# Altium schematic symbol library WR-PHD_Pin Header_2.54mm.SchLib: 136 symbols (part 1 of 3)
Pins are listed as number, name and electrical type; pins without a type are passive.

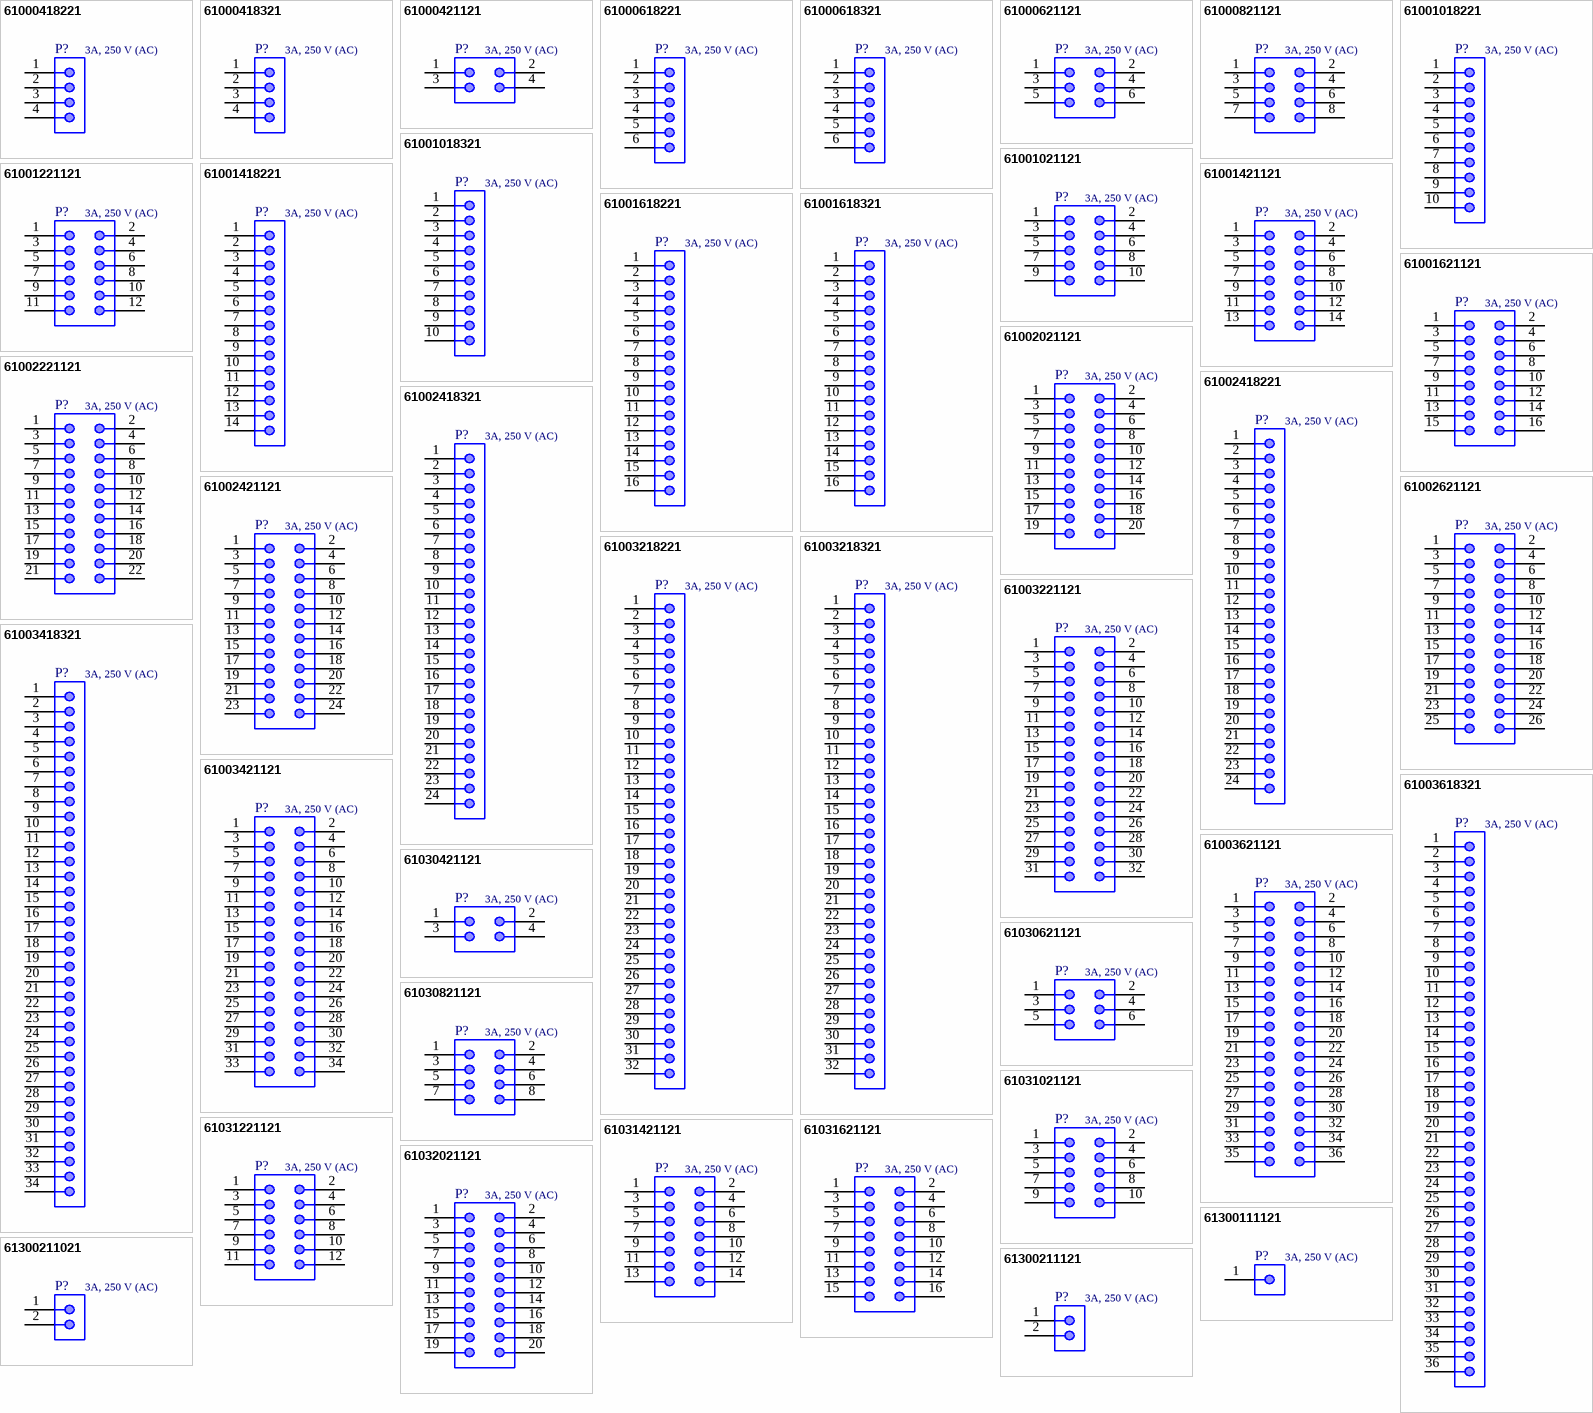
[diagram p0: symbols 61000418221 to 61300211121]

## 61000418221
designator P?, comment 3A, 250 V (AC)
WR-PHD Pin Header, SMT, pitch 2.54mm, Single Row, Vertical, 4p; Manufacturer Part Number: 61000418221; Manufacturer: Wurth Elektronik; Pin Number: 4; Working Voltage: 250VAC; Withstanding Voltage: 500VAC; Contact Resistance: 20mOhm; ComponentLink1Description: Datasheet; ComponentLink1URL: https://www.we-online.com/catalog/datasheet/61000418221.pdf; Published Date: May 2020; Pitch: 2.54mm; Packaging: Tube; Gender: Pin Header; Rated Current: 3A; Row Number: Single; Orientation: Vertical; Supplier 1 URL: https://www.mouser.vn/ProductDetail/Wurth-Elektronik/61000418221?qs=PhR8RmCirEYdONxwBKe2QA%3D%3D; Supplier 2 URL: N/A; Supplier 3 URL: N/A; LCSC Part #: N/A; Mount: SMD/SMT; Operating Temperature Max: + 85 C; Operating Temperature Min: - 25 C; Supplier 1: Mouser; Supplier 1 Part Number: 710-61000418221; Supplier 2: Digi-Key; Supplier 2 Part Number: N/A; Supplier 3: thegioiic; Supplier 3 Part Number: N/A; Value: 3A, 250 V (AC)
footprint 61000418221
pins: 1, 2, 3, 4

## 61000418321
designator P?, comment 3A, 250 V (AC)
WR-PHD Pin Header, SMT, pitch 2.54mm, Single Row, Vertical, 4p; Manufacturer Part Number: 61000418321; Manufacturer: Wurth Elektronik; Pin Number: 4; Working Voltage: 250VAC; Withstanding Voltage: 500VAC; Contact Resistance: 20mOhm; ComponentLink1Description: Datasheet; ComponentLink1URL: https://www.we-online.com/catalog/datasheet/61000418321.pdf; Published Date: May 2020; Pitch: 2.54mm; Packaging: Tube; Gender: Pin Header; Rated Current: 3A; Row Number: Single; Orientation: Vertical; Supplier 1 URL: N/A; Supplier 2 URL: N/A; Supplier 3 URL: N/A; LCSC Part #: N/A; Mount: SMD/SMT; Operating Temperature Max: + 85 C; Operating Temperature Min: - 25 C; Supplier 1: Mouser; Supplier 1 Part Number: N/A; Supplier 2: Digi-Key; Supplier 2 Part Number: N/A; Supplier 3: thegioiic; Supplier 3 Part Number: N/A; Value: 3A, 250 V (AC)
footprint 61000418321
pins: 1, 2, 3, 4

## 61000421121
designator P?, comment 3A, 250 V (AC)
WR-PHD Pin Header, SMT, pitch 2.54mm, Dual Row, Vertical, 4p; Manufacturer Part Number: 61000421121; Manufacturer: Wurth Elektronik; Pin Number: 4; Working Voltage: 250VAC; Withstanding Voltage: 500VAC; Contact Resistance: 20mOhm; ComponentLink1Description: Datasheet; ComponentLink1URL: https://www.we-online.com/catalog/datasheet/61000421121.pdf; Published Date: May 2020; Pitch: 2.54mm; Packaging: Tube; Gender: Pin Header; Rated Current: 3A; Row Number: Dual; Orientation: Vertical; Supplier 1 URL: https://www.mouser.vn/ProductDetail/Wurth-Elektronik/61000421121?qs=PhR8RmCirEbv1dkOs1yFBA%3D%3D; Supplier 2 URL: N/A; Supplier 3 URL: N/A; LCSC Part #: N/A; Mount: SMD/SMT; Operating Temperature Max: + 85 C; Operating Temperature Min: - 25 C; Supplier 1: Mouser; Supplier 1 Part Number: 710-61000421121; Supplier 2: Digi-Key; Supplier 2 Part Number: N/A; Supplier 3: thegioiic; Supplier 3 Part Number: N/A; Value: 3A, 250 V (AC)
footprint 61000421121
pins: 1, 2, 3, 4

## 61000618221
designator P?, comment 3A, 250 V (AC)
WR-PHD Pin Header, SMT, pitch 2.54mm, Single Row, Vertical, 6p; Manufacturer Part Number: 61000618221; Manufacturer: Wurth Elektronik; Pin Number: 6; Working Voltage: 250VAC; Withstanding Voltage: 500VAC; Contact Resistance: 20mOhm; ComponentLink1Description: Datasheet; ComponentLink1URL: https://www.we-online.com/catalog/datasheet/61000618221.pdf; Published Date: May 2020; Pitch: 2.54mm; Packaging: Tube; Gender: Pin Header; Rated Current: 3A; Row Number: Single; Orientation: Vertical; Supplier 1 URL: https://www.mouser.vn/ProductDetail/Wurth-Elektronik/61000618221?qs=PhR8RmCirEapv%2FAh7BjzQw%3D%3D; Supplier 2 URL: N/A; Supplier 3 URL: N/A; LCSC Part #: N/A; Mount: SMD/SMT; Operating Temperature Max: + 85 C; Operating Temperature Min: - 25 C; Supplier 1: Mouser; Supplier 1 Part Number: 710-61000618221; Supplier 2: Digi-Key; Supplier 2 Part Number: N/A; Supplier 3: thegioiic; Supplier 3 Part Number: N/A; Value: 3A, 250 V (AC)
footprint 61000618221
pins: 1, 2, 3, 4, 5, 6

## 61000618321
designator P?, comment 3A, 250 V (AC)
WR-PHD Pin Header, SMT, pitch 2.54mm, Single Row, Vertical, 6p; Manufacturer Part Number: 61000618321; Manufacturer: Wurth Elektronik; Pin Number: 6; Working Voltage: 250VAC; Withstanding Voltage: 500VAC; Contact Resistance: 20mOhm; ComponentLink1Description: Datasheet; ComponentLink1URL: https://www.we-online.com/catalog/datasheet/61000618321.pdf; Published Date: May 2020; Pitch: 2.54mm; Packaging: Tube; Gender: Pin Header; Rated Current: 3A; Row Number: Single; Orientation: Vertical; Supplier 1 URL: N/A; Supplier 2 URL: N/A; Supplier 3 URL: N/A; LCSC Part #: N/A; Mount: SMD/SMT; Operating Temperature Max: + 85 C; Operating Temperature Min: - 25 C; Supplier 1: Mouser; Supplier 1 Part Number: N/A; Supplier 2: Digi-Key; Supplier 2 Part Number: N/A; Supplier 3: thegioiic; Supplier 3 Part Number: N/A; Value: 3A, 250 V (AC)
footprint 61000618321
pins: 1, 2, 3, 4, 5, 6

## 61000621121
designator P?, comment 3A, 250 V (AC)
WR-PHD Pin Header, SMT, pitch 2.54mm, Dual Row, Vertical, 6p; Manufacturer Part Number: 61000621121; Manufacturer: Wurth Elektronik; Pin Number: 6; Working Voltage: 250VAC; Withstanding Voltage: 500VAC; Contact Resistance: 20mOhm; ComponentLink1Description: Datasheet; ComponentLink1URL: https://www.we-online.com/catalog/datasheet/61000621121.pdf; Published Date: May 2020; Pitch: 2.54mm; Packaging: Tube; Gender: Pin Header; Rated Current: 3A; Row Number: Dual; Orientation: Vertical; Supplier 1 URL: https://www.mouser.vn/ProductDetail/Wurth-Elektronik/61000621121?qs=PhR8RmCirEYoFU9UUO%252Bbug%3D%3D; Supplier 2 URL: N/A; Supplier 3 URL: N/A; LCSC Part #: N/A; Mount: SMD/SMT; Operating Temperature Max: + 85 C; Operating Temperature Min: - 25 C; Supplier 1: Mouser; Supplier 1 Part Number: 710-61000621121; Supplier 2: Digi-Key; Supplier 2 Part Number: N/A; Supplier 3: thegioiic; Supplier 3 Part Number: N/A; Value: 3A, 250 V (AC)
footprint 61000621121
pins: 1, 2, 3, 4, 5, 6

## 61000821121
designator P?, comment 3A, 250 V (AC)
WR-PHD Pin Header, SMT, pitch 2.54mm, Dual Row, Vertical, 8p; Manufacturer Part Number: 61000821121; Manufacturer: Wurth Elektronik; Pin Number: 8; Working Voltage: 250VAC; Withstanding Voltage: 500VAC; Contact Resistance: 20mOhm; ComponentLink1Description: Datasheet; ComponentLink1URL: https://www.we-online.com/catalog/datasheet/61000821121.pdf; Published Date: May 2020; Pitch: 2.54mm; Packaging: Tube; Gender: Pin Header; Rated Current: 3A; Row Number: Dual; Orientation: Vertical; Supplier 1 URL: https://www.mouser.vn/ProductDetail/Wurth-Elektronik/61000821121?qs=PhR8RmCirEY9VZicy%252B5p2A%3D%3D; Supplier 2 URL: N/A; Supplier 3 URL: N/A; LCSC Part #: N/A; Mount: SMD/SMT; Operating Temperature Max: + 85 C; Operating Temperature Min: - 25 C; Supplier 1: Mouser; Supplier 1 Part Number: 710-61000821121; Supplier 2: Digi-Key; Supplier 2 Part Number: N/A; Supplier 3: thegioiic; Supplier 3 Part Number: N/A; Value: 3A, 250 V (AC)
footprint 61000821121
pins: 1, 2, 3, 4, 5, 6, 7, 8

## 61001018221
designator P?, comment 3A, 250 V (AC)
WR-PHD Pin Header, SMT, pitch 2.54mm, Single Row, Vertical, 10p; Manufacturer Part Number: 61001018221; Manufacturer: Wurth Elektronik; Pin Number: 10; Working Voltage: 250VAC; Withstanding Voltage: 500VAC; Contact Resistance: 20mOhm; ComponentLink1Description: Datasheet; ComponentLink1URL: https://www.we-online.com/catalog/datasheet/61001018221.pdf; Published Date: May 2020; Pitch: 2.54mm; Packaging: Tube; Gender: Pin Header; Rated Current: 3A; Row Number: Single; Orientation: Vertical; Supplier 1 URL: https://www.mouser.vn/ProductDetail/Wurth-Elektronik/61001018221?qs=PhR8RmCirEaQT5vgZN0Pew%3D%3D; Supplier 2 URL: N/A; Supplier 3 URL: N/A; LCSC Part #: N/A; Mount: SMD/SMT; Operating Temperature Max: + 85 C; Operating Temperature Min: - 25 C; Supplier 1: Mouser; Supplier 1 Part Number: 710-61001018221; Supplier 2: Digi-Key; Supplier 2 Part Number: N/A; Supplier 3: thegioiic; Supplier 3 Part Number: N/A; Value: 3A, 250 V (AC)
footprint 61001018221
pins: 1, 2, 3, 4, 5, 6, 7, 8, 9, 10

## 61001018321
designator P?, comment 3A, 250 V (AC)
WR-PHD Pin Header, SMT, pitch 2.54mm, Single Row, Vertical, 10p; Manufacturer Part Number: 61001018321; Manufacturer: Wurth Elektronik; Pin Number: 10; Working Voltage: 250VAC; Withstanding Voltage: 500VAC; Contact Resistance: 20mOhm; ComponentLink1Description: Datasheet; ComponentLink1URL: https://www.we-online.com/catalog/datasheet/61001018321.pdf; Published Date: May 2020; Pitch: 2.54mm; Packaging: Tube; Gender: Pin Header; Rated Current: 3A; Row Number: Single; Orientation: Vertical; Supplier 1 URL: N/A; Supplier 2 URL: N/A; Supplier 3 URL: N/A; LCSC Part #: N/A; Mount: SMD/SMT; Operating Temperature Max: + 85 C; Operating Temperature Min: - 25 C; Supplier 1: Mouser; Supplier 1 Part Number: N/A; Supplier 2: Digi-Key; Supplier 2 Part Number: N/A; Supplier 3: thegioiic; Supplier 3 Part Number: N/A; Value: 3A, 250 V (AC)
footprint 61001018321
pins: 1, 2, 3, 4, 5, 6, 7, 8, 9, 10

## 61001021121
designator P?, comment 3A, 250 V (AC)
WR-PHD Pin Header, SMT, pitch 2.54mm, Dual Row, Vertical, 10p; Manufacturer Part Number: 61001021121; Manufacturer: Wurth Elektronik; Pin Number: 10; Working Voltage: 250VAC; Withstanding Voltage: 500VAC; Contact Resistance: 20mOhm; ComponentLink1Description: Datasheet; ComponentLink1URL: https://www.we-online.com/catalog/datasheet/61001021121.pdf; Published Date: May 2020; Pitch: 2.54mm; Packaging: Tube; Gender: Pin Header; Rated Current: 3A; Row Number: Dual; Orientation: Vertical; Supplier 1 URL: https://www.mouser.vn/ProductDetail/Wurth-Elektronik/61001021121?qs=PhR8RmCirEb%252BTbdgW%2FxzDg%3D%3D; Supplier 2 URL: N/A; Supplier 3 URL: N/A; LCSC Part #: N/A; Mount: SMD/SMT; Operating Temperature Max: + 85 C; Operating Temperature Min: - 25 C; Supplier 1: Mouser; Supplier 1 Part Number: 710-61001021121; Supplier 2: Digi-Key; Supplier 2 Part Number: N/A; Supplier 3: thegioiic; Supplier 3 Part Number: N/A; Value: 3A, 250 V (AC)
footprint 61001021121
pins: 1, 2, 3, 4, 5, 6, 7, 8, 9, 10

## 61001221121
designator P?, comment 3A, 250 V (AC)
WR-PHD Pin Header, SMT, pitch 2.54mm, Dual Row, Vertical, 12p; Manufacturer Part Number: 61001221121; Manufacturer: Wurth Elektronik; Pin Number: 12; Working Voltage: 250VAC; Withstanding Voltage: 500VAC; Contact Resistance: 20mOhm; ComponentLink1Description: Datasheet; ComponentLink1URL: https://www.we-online.com/catalog/datasheet/61001221121.pdf; Published Date: May 2020; Pitch: 2.54mm; Packaging: Tube; Gender: Pin Header; Rated Current: 3A; Row Number: Dual; Orientation: Vertical; Supplier 1 URL: https://www.mouser.vn/ProductDetail/Wurth-Elektronik/61001221121?qs=PhR8RmCirEZCyuiqQamspg%3D%3D; Supplier 2 URL: N/A; Supplier 3 URL: N/A; LCSC Part #: N/A; Mount: SMD/SMT; Operating Temperature Max: + 85 C; Operating Temperature Min: - 25 C; Supplier 1: Mouser; Supplier 1 Part Number: 710-61001221121; Supplier 2: Digi-Key; Supplier 2 Part Number: N/A; Supplier 3: thegioiic; Supplier 3 Part Number: N/A; Value: 3A, 250 V (AC)
footprint 61001221121
pins: 1, 2, 3, 4, 5, 6, 7, 8, 9, 10, 11, 12

## 61001418221
designator P?, comment 3A, 250 V (AC)
WR-PHD Pin Header, SMT, pitch 2.54mm, Single Row, Vertical, 14p; Manufacturer Part Number: 61001418221; Manufacturer: Wurth Elektronik; Pin Number: 14; Working Voltage: 250VAC; Withstanding Voltage: 500VAC; Contact Resistance: 20mOhm; ComponentLink1Description: Datasheet; ComponentLink1URL: https://www.we-online.com/catalog/datasheet/61001418221.pdf; Published Date: May 2020; Pitch: 2.54mm; Packaging: Tube; Gender: Pin Header; Rated Current: 3A; Row Number: Single; Orientation: Vertical; Supplier 1 URL: https://www.mouser.vn/ProductDetail/Wurth-Elektronik/61001418221?qs=PhR8RmCirEZbaE9NVx%2FAsQ%3D%3D; Supplier 2 URL: N/A; Supplier 3 URL: N/A; LCSC Part #: N/A; Mount: SMD/SMT; Operating Temperature Max: + 85 C; Operating Temperature Min: - 25 C; Supplier 1: Mouser; Supplier 1 Part Number: 710-61001418221; Supplier 2: Digi-Key; Supplier 2 Part Number: N/A; Supplier 3: thegioiic; Supplier 3 Part Number: N/A; Value: 3A, 250 V (AC)
footprint 61001418221
pins: 1, 2, 3, 4, 5, 6, 7, 8, 9, 10, 11, 12, 13, 14

## 61001421121
designator P?, comment 3A, 250 V (AC)
WR-PHD Pin Header, SMT, pitch 2.54mm, Dual Row, Vertical, 14p; Manufacturer Part Number: 61001421121; Manufacturer: Wurth Elektronik; Pin Number: 14; Working Voltage: 250VAC; Withstanding Voltage: 500VAC; Contact Resistance: 20mOhm; ComponentLink1Description: Datasheet; ComponentLink1URL: https://www.we-online.com/catalog/datasheet/61001421121.pdf; Published Date: May 2020; Pitch: 2.54mm; Packaging: Tube; Gender: Pin Header; Rated Current: 3A; Row Number: Dual; Orientation: Vertical; Supplier 1 URL: https://www.mouser.vn/ProductDetail/Wurth-Elektronik/61001421121?qs=PhR8RmCirEbaO37AAt9Iwg%3D%3D; Supplier 2 URL: N/A; Supplier 3 URL: N/A; LCSC Part #: N/A; Mount: SMD/SMT; Operating Temperature Max: + 85 C; Operating Temperature Min: - 25 C; Supplier 1: Mouser; Supplier 1 Part Number: 710-61001421121; Supplier 2: Digi-Key; Supplier 2 Part Number: N/A; Supplier 3: thegioiic; Supplier 3 Part Number: N/A; Value: 3A, 250 V (AC)
footprint 61001421121
pins: 1, 2, 3, 4, 5, 6, 7, 8, 9, 10, 11, 12, 13, 14

## 61001618221
designator P?, comment 3A, 250 V (AC)
WR-PHD Pin Header, SMT, pitch 2.54mm, Single Row, Vertical, 16p; Manufacturer Part Number: 61001618221; Manufacturer: Wurth Elektronik; Pin Number: 16; Working Voltage: 250VAC; Withstanding Voltage: 500VAC; Contact Resistance: 20mOhm; ComponentLink1Description: Datasheet; ComponentLink1URL: https://www.we-online.com/catalog/datasheet/61001618221.pdf; Published Date: May 2020; Pitch: 2.54mm; Packaging: Tube; Gender: Pin Header; Rated Current: 3A; Row Number: Single; Orientation: Vertical; Supplier 1 URL: https://www.mouser.vn/ProductDetail/Wurth-Elektronik/61001618221?qs=PhR8RmCirEb%252Bm4ERLtA81A%3D%3D; Supplier 2 URL: N/A; Supplier 3 URL: N/A; LCSC Part #: N/A; Mount: SMD/SMT; Operating Temperature Max: + 85 C; Operating Temperature Min: - 25 C; Supplier 1: Mouser; Supplier 1 Part Number: 710-61001618221; Supplier 2: Digi-Key; Supplier 2 Part Number: N/A; Supplier 3: thegioiic; Supplier 3 Part Number: N/A; Value: 3A, 250 V (AC)
footprint 61001618221
pins: 1, 2, 3, 4, 5, 6, 7, 8, 9, 10, 11, 12, 13, 14, 15, 16

## 61001618321
designator P?, comment 3A, 250 V (AC)
WR-PHD Pin Header, SMT, pitch 2.54mm, Single Row, Vertical, 16p; Manufacturer Part Number: 61001618321; Manufacturer: Wurth Elektronik; Pin Number: 16; Working Voltage: 250VAC; Withstanding Voltage: 500VAC; Contact Resistance: 20mOhm; ComponentLink1Description: Datasheet; ComponentLink1URL: https://www.we-online.com/catalog/datasheet/61001618321.pdf; Published Date: May 2020; Pitch: 2.54mm; Packaging: Tube; Gender: Pin Header; Rated Current: 3A; Row Number: Single; Orientation: Vertical; Supplier 1 URL: N/A; Supplier 2 URL: N/A; Supplier 3 URL: N/A; LCSC Part #: N/A; Mount: SMD/SMT; Operating Temperature Max: + 85 C; Operating Temperature Min: - 25 C; Supplier 1: Mouser; Supplier 1 Part Number: N/A; Supplier 2: Digi-Key; Supplier 2 Part Number: N/A; Supplier 3: thegioiic; Supplier 3 Part Number: N/A; Value: 3A, 250 V (AC)
footprint 61001618321
pins: 1, 2, 3, 4, 5, 6, 7, 8, 9, 10, 11, 12, 13, 14, 15, 16

## 61001621121
designator P?, comment 3A, 250 V (AC)
WR-PHD Pin Header, SMT, pitch 2.54mm, Dual Row, Vertical, 16p; Manufacturer Part Number: 61001621121; Manufacturer: Wurth Elektronik; Pin Number: 16; Working Voltage: 250VAC; Withstanding Voltage: 500VAC; Contact Resistance: 20mOhm; ComponentLink1Description: Datasheet; ComponentLink1URL: https://www.we-online.com/catalog/datasheet/61001621121.pdf; Published Date: May 2020; Pitch: 2.54mm; Packaging: Tube; Gender: Pin Header; Rated Current: 3A; Row Number: Dual; Orientation: Vertical; Supplier 1 URL: https://www.mouser.vn/ProductDetail/Wurth-Elektronik/61001621121?qs=PhR8RmCirEZBV5udYK4jPw%3D%3D; Supplier 2 URL: N/A; Supplier 3 URL: N/A; LCSC Part #: N/A; Mount: SMD/SMT; Operating Temperature Max: + 85 C; Operating Temperature Min: - 25 C; Supplier 1: Mouser; Supplier 1 Part Number: 710-61001621121; Supplier 2: Digi-Key; Supplier 2 Part Number: N/A; Supplier 3: thegioiic; Supplier 3 Part Number: N/A; Value: 3A, 250 V (AC)
footprint 61001621121
pins: 1, 2, 3, 4, 5, 6, 7, 8, 9, 10, 11, 12, 13, 14, 15, 16

## 61002021121
designator P?, comment 3A, 250 V (AC)
WR-PHD Pin Header, SMT, pitch 2.54mm, Dual Row, Vertical, 20p; Manufacturer Part Number: 61002021121; Manufacturer: Wurth Elektronik; Pin Number: 20; Working Voltage: 250VAC; Withstanding Voltage: 500VAC; Contact Resistance: 20mOhm; ComponentLink1Description: Datasheet; ComponentLink1URL: https://www.we-online.com/catalog/datasheet/61002021121.pdf; Published Date: May 2020; Pitch: 2.54mm; Packaging: Tube; Gender: Pin Header; Rated Current: 3A; Row Number: Dual; Orientation: Vertical; Supplier 1 URL: https://www.mouser.vn/ProductDetail/Wurth-Elektronik/61002021121?qs=PhR8RmCirEb8NKw1QtRC3A%3D%3D; Supplier 2 URL: N/A; Supplier 3 URL: N/A; LCSC Part #: N/A; Mount: SMD/SMT; Operating Temperature Max: + 85 C; Operating Temperature Min: - 25 C; Supplier 1: Mouser; Supplier 1 Part Number: 710-61002021121; Supplier 2: Digi-Key; Supplier 2 Part Number: N/A; Supplier 3: thegioiic; Supplier 3 Part Number: N/A; Value: 3A, 250 V (AC)
footprint 61002021121
pins: 1, 2, 3, 4, 5, 6, 7, 8, 9, 10, 11, 12, 13, 14, 15, 16, 17, 18, 19, 20

## 61002221121
designator P?, comment 3A, 250 V (AC)
WR-PHD Pin Header, SMT, pitch 2.54mm, Dual Row, Vertical, 22p; Manufacturer Part Number: 61002221121; Manufacturer: Wurth Elektronik; Pin Number: 22; Working Voltage: 250VAC; Withstanding Voltage: 500VAC; Contact Resistance: 20mOhm; ComponentLink1Description: Datasheet; ComponentLink1URL: https://www.we-online.com/catalog/datasheet/61002221121.pdf; Published Date: May 2020; Pitch: 2.54mm; Packaging: Tube; Gender: Pin Header; Rated Current: 3A; Row Number: Dual; Orientation: Vertical; Supplier 1 URL: https://www.mouser.vn/ProductDetail/Wurth-Elektronik/61002221121?qs=PhR8RmCirEaUkobkz%252BuaKg%3D%3D; Supplier 2 URL: N/A; Supplier 3 URL: N/A; LCSC Part #: N/A; Mount: SMD/SMT; Operating Temperature Max: + 85 C; Operating Temperature Min: - 25 C; Supplier 1: Mouser; Supplier 1 Part Number: 710-61002221121; Supplier 2: Digi-Key; Supplier 2 Part Number: N/A; Supplier 3: thegioiic; Supplier 3 Part Number: N/A; Value: 3A, 250 V (AC)
footprint 61002221121
pins: 1, 2, 3, 4, 5, 6, 7, 8, 9, 10, 11, 12, 13, 14, 15, 16, 17, 18, 19, 20, 21, 22

## 61002418221
designator P?, comment 3A, 250 V (AC)
WR-PHD Pin Header, SMT, pitch 2.54mm, Single Row, Vertical, 24p; Manufacturer Part Number: 61002418221; Manufacturer: Wurth Elektronik; Pin Number: 24; Working Voltage: 250VAC; Withstanding Voltage: 500VAC; Contact Resistance: 20mOhm; ComponentLink1Description: Datasheet; ComponentLink1URL: https://www.we-online.com/catalog/datasheet/61002418221.pdf; Published Date: May 2020; Pitch: 2.54mm; Packaging: Tube; Gender: Pin Header; Rated Current: 3A; Row Number: Single; Orientation: Vertical; Supplier 1 URL: https://www.mouser.vn/ProductDetail/Wurth-Elektronik/61002418221?qs=PhR8RmCirEZUluBRWF60Ag%3D%3D; Supplier 2 URL: N/A; Supplier 3 URL: N/A; LCSC Part #: N/A; Mount: SMD/SMT; Operating Temperature Max: + 85 C; Operating Temperature Min: - 25 C; Supplier 1: Mouser; Supplier 1 Part Number: 710-61002418221; Supplier 2: Digi-Key; Supplier 2 Part Number: N/A; Supplier 3: thegioiic; Supplier 3 Part Number: N/A; Value: 3A, 250 V (AC)
footprint 61002418221
pins: 1, 2, 3, 4, 5, 6, 7, 8, 9, 10, 11, 12, 13, 14, 15, 16, 17, 18, 19, 20, 21, 22, 23, 24

## 61002418321
designator P?, comment 3A, 250 V (AC)
WR-PHD Pin Header, SMT, pitch 2.54mm, Single Row, Vertical, 24p; Manufacturer Part Number: 61002418321; Manufacturer: Wurth Elektronik; Pin Number: 24; Working Voltage: 250VAC; Withstanding Voltage: 500VAC; Contact Resistance: 20mOhm; ComponentLink1Description: Datasheet; ComponentLink1URL: https://www.we-online.com/catalog/datasheet/61002418321.pdf; Published Date: May 2020; Pitch: 2.54mm; Packaging: Tube; Gender: Pin Header; Rated Current: 3A; Row Number: Single; Orientation: Vertical; Supplier 1 URL: N/A; Supplier 2 URL: N/A; Supplier 3 URL: N/A; LCSC Part #: N/A; Mount: SMD/SMT; Operating Temperature Max: + 85 C; Operating Temperature Min: - 25 C; Supplier 1: Mouser; Supplier 1 Part Number: N/A; Supplier 2: Digi-Key; Supplier 2 Part Number: N/A; Supplier 3: thegioiic; Supplier 3 Part Number: N/A; Value: 3A, 250 V (AC)
footprint 61002418321
pins: 1, 2, 3, 4, 5, 6, 7, 8, 9, 10, 11, 12, 13, 14, 15, 16, 17, 18, 19, 20, 21, 22, 23, 24

## 61002421121
designator P?, comment 3A, 250 V (AC)
WR-PHD Pin Header, SMT, pitch 2.54mm, Dual Row, Vertical, 24p; Manufacturer Part Number: 61002421121; Manufacturer: Wurth Elektronik; Pin Number: 24; Working Voltage: 250VAC; Withstanding Voltage: 500VAC; Contact Resistance: 20mOhm; ComponentLink1Description: Datasheet; ComponentLink1URL: https://www.we-online.com/catalog/datasheet/61002421121.pdf; Published Date: May 2020; Pitch: 2.54mm; Packaging: Tube; Gender: Pin Header; Rated Current: 3A; Row Number: Dual; Orientation: Vertical; Supplier 1 URL: https://www.mouser.vn/ProductDetail/Wurth-Elektronik/61002421121?qs=PhR8RmCirEaUrVIpVd3oMg%3D%3D; Supplier 2 URL: N/A; Supplier 3 URL: N/A; LCSC Part #: N/A; Mount: SMD/SMT; Operating Temperature Max: + 85 C; Operating Temperature Min: - 25 C; Supplier 1: Mouser; Supplier 1 Part Number: 710-61002421121; Supplier 2: Digi-Key; Supplier 2 Part Number: N/A; Supplier 3: thegioiic; Supplier 3 Part Number: N/A; Value: 3A, 250 V (AC)
footprint 61002421121
pins: 1, 2, 3, 4, 5, 6, 7, 8, 9, 10, 11, 12, 13, 14, 15, 16, 17, 18, 19, 20, 21, 22, 23, 24

## 61002621121
designator P?, comment 3A, 250 V (AC)
WR-PHD Pin Header, SMT, pitch 2.54mm, Dual Row, Vertical, 26p; Manufacturer Part Number: 61002621121; Manufacturer: Wurth Elektronik; Pin Number: 26; Working Voltage: 250VAC; Withstanding Voltage: 500VAC; Contact Resistance: 20mOhm; ComponentLink1Description: Datasheet; ComponentLink1URL: https://www.we-online.com/catalog/datasheet/61002621121.pdf; Published Date: May 2020; Pitch: 2.54mm; Packaging: Tube; Gender: Pin Header; Rated Current: 3A; Row Number: Dual; Orientation: Vertical; Supplier 1 URL: https://www.mouser.vn/ProductDetail/Wurth-Elektronik/61002621121?qs=PhR8RmCirEbAqLUB4tGHSg%3D%3D; Supplier 2 URL: N/A; Supplier 3 URL: N/A; LCSC Part #: N/A; Mount: SMD/SMT; Operating Temperature Max: + 85 C; Operating Temperature Min: - 25 C; Supplier 1: Mouser; Supplier 1 Part Number: 710-61002621121; Supplier 2: Digi-Key; Supplier 2 Part Number: N/A; Supplier 3: thegioiic; Supplier 3 Part Number: N/A; Value: 3A, 250 V (AC)
footprint 61002621121
pins: 1, 2, 3, 4, 5, 6, 7, 8, 9, 10, 11, 12, 13, 14, 15, 16, 17, 18, 19, 20, 21, 22, 23, 24, 25, 26

## 61003218221
designator P?, comment 3A, 250 V (AC)
WR-PHD Pin Header, SMT, pitch 2.54mm, Single Row, Vertical, 32p; Manufacturer Part Number: 61003218221; Manufacturer: Wurth Elektronik; Pin Number: 32; Working Voltage: 250VAC; Withstanding Voltage: 500VAC; Contact Resistance: 20mOhm; ComponentLink1Description: Datasheet; ComponentLink1URL: https://www.we-online.com/catalog/datasheet/61003218221.pdf; Published Date: May 2020; Pitch: 2.54mm; Packaging: Tube; Gender: Pin Header; Rated Current: 3A; Row Number: Single; Orientation: Vertical; Supplier 1 URL: https://www.mouser.vn/ProductDetail/Wurth-Elektronik/61003218221?qs=PhR8RmCirEaa3bBIQrBxjQ%3D%3D; Supplier 2 URL: N/A; Supplier 3 URL: N/A; LCSC Part #: N/A; Mount: SMD/SMT; Operating Temperature Max: + 85 C; Operating Temperature Min: - 25 C; Supplier 1: Mouser; Supplier 1 Part Number: 710-61003218221; Supplier 2: Digi-Key; Supplier 2 Part Number: N/A; Supplier 3: thegioiic; Supplier 3 Part Number: N/A; Value: 3A, 250 V (AC)
footprint 61003218221
pins: 1, 2, 3, 4, 5, 6, 7, 8, 9, 10, 11, 12, 13, 14, 15, 16, 17, 18, 19, 20, 21, 22, 23, 24, 25, 26, 27, 28, 29, 30, 31, 32

## 61003218321
designator P?, comment 3A, 250 V (AC)
WR-PHD Pin Header, SMT, pitch 2.54mm, Single Row, Vertical, 32p; Manufacturer Part Number: 61003218321; Manufacturer: Wurth Elektronik; Pin Number: 32; Working Voltage: 250VAC; Withstanding Voltage: 500VAC; Contact Resistance: 20mOhm; ComponentLink1Description: Datasheet; ComponentLink1URL: https://www.we-online.com/catalog/datasheet/61003218321.pdf; Published Date: May 2020; Pitch: 2.54mm; Packaging: Tube; Gender: Pin Header; Rated Current: 3A; Row Number: Single; Orientation: Vertical; Supplier 1 URL: N/A; Supplier 2 URL: N/A; Supplier 3 URL: N/A; LCSC Part #: N/A; Mount: SMD/SMT; Operating Temperature Max: + 85 C; Operating Temperature Min: - 25 C; Supplier 1: Mouser; Supplier 1 Part Number: N/A; Supplier 2: Digi-Key; Supplier 2 Part Number: N/A; Supplier 3: thegioiic; Supplier 3 Part Number: N/A; Value: 3A, 250 V (AC)
footprint 61003218321
pins: 1, 2, 3, 4, 5, 6, 7, 8, 9, 10, 11, 12, 13, 14, 15, 16, 17, 18, 19, 20, 21, 22, 23, 24, 25, 26, 27, 28, 29, 30, 31, 32

## 61003221121
designator P?, comment 3A, 250 V (AC)
WR-PHD Pin Header, SMT, pitch 2.54mm, Dual Row, Vertical, 32p; Manufacturer Part Number: 61003221121; Manufacturer: Wurth Elektronik; Pin Number: 32; Working Voltage: 250VAC; Withstanding Voltage: 500VAC; Contact Resistance: 20mOhm; ComponentLink1Description: Datasheet; ComponentLink1URL: https://www.we-online.com/catalog/datasheet/61003221121.pdf; Published Date: May 2020; Pitch: 2.54mm; Packaging: Tube; Gender: Pin Header; Rated Current: 3A; Row Number: Dual; Orientation: Vertical; Supplier 1 URL: https://www.mouser.vn/ProductDetail/Wurth-Elektronik/61003221121?qs=PhR8RmCirEZl%2FVWBU%252BCQVw%3D%3D; Supplier 2 URL: N/A; Supplier 3 URL: N/A; LCSC Part #: N/A; Mount: SMD/SMT; Operating Temperature Max: + 85 C; Operating Temperature Min: - 25 C; Supplier 1: Mouser; Supplier 1 Part Number: 710-61003221121; Supplier 2: Digi-Key; Supplier 2 Part Number: N/A; Supplier 3: thegioiic; Supplier 3 Part Number: N/A; Value: 3A, 250 V (AC)
footprint 61003221121
pins: 1, 2, 3, 4, 5, 6, 7, 8, 9, 10, 11, 12, 13, 14, 15, 16, 17, 18, 19, 20, 21, 22, 23, 24, 25, 26, 27, 28, 29, 30, 31, 32

## 61003418321
designator P?, comment 3A, 250 V (AC)
WR-PHD Pin Header, SMT, pitch 2.54mm, Single Row, Vertical, 34p; Manufacturer Part Number: 61003418321; Manufacturer: Wurth Elektronik; Pin Number: 34; Working Voltage: 250VAC; Withstanding Voltage: 500VAC; Contact Resistance: 20mOhm; ComponentLink1Description: Datasheet; ComponentLink1URL: https://www.we-online.com/catalog/datasheet/61003418321.pdf; Published Date: May 2020; Pitch: 2.54mm; Packaging: Tube; Gender: Pin Header; Rated Current: 3A; Row Number: Single; Orientation: Vertical; Supplier 1 URL: N/A; Supplier 2 URL: N/A; Supplier 3 URL: N/A; LCSC Part #: N/A; Mount: SMD/SMT; Operating Temperature Max: + 85 C; Operating Temperature Min: - 25 C; Supplier 1: Mouser; Supplier 1 Part Number: N/A; Supplier 2: Digi-Key; Supplier 2 Part Number: N/A; Supplier 3: thegioiic; Supplier 3 Part Number: N/A; Value: 3A, 250 V (AC)
footprint 61003418321
pins: 1, 2, 3, 4, 5, 6, 7, 8, 9, 10, 11, 12, 13, 14, 15, 16, 17, 18, 19, 20, 21, 22, 23, 24, 25, 26, 27, 28, 29, 30, 31, 32, 33, 34

## 61003421121
designator P?, comment 3A, 250 V (AC)
WR-PHD Pin Header, SMT, pitch 2.54mm, Dual Row, Vertical, 34p; Manufacturer Part Number: 61003421121; Manufacturer: Wurth Elektronik; Pin Number: 34; Working Voltage: 250VAC; Withstanding Voltage: 500VAC; Contact Resistance: 20mOhm; ComponentLink1Description: Datasheet; ComponentLink1URL: https://www.we-online.com/catalog/datasheet/61003421121.pdf; Published Date: May 2020; Pitch: 2.54mm; Packaging: Tube; Gender: Pin Header; Rated Current: 3A; Row Number: Dual; Orientation: Vertical; Supplier 1 URL: https://www.mouser.vn/ProductDetail/Wurth-Elektronik/61003421121?qs=PhR8RmCirEZQGfcwFBQKHg%3D%3D; Supplier 2 URL: N/A; Supplier 3 URL: N/A; LCSC Part #: N/A; Mount: SMD/SMT; Operating Temperature Max: + 85 C; Operating Temperature Min: - 25 C; Supplier 1: Mouser; Supplier 1 Part Number: 710-61003421121; Supplier 2: Digi-Key; Supplier 2 Part Number: N/A; Supplier 3: thegioiic; Supplier 3 Part Number: N/A; Value: 3A, 250 V (AC)
footprint 61003421121
pins: 1, 2, 3, 4, 5, 6, 7, 8, 9, 10, 11, 12, 13, 14, 15, 16, 17, 18, 19, 20, 21, 22, 23, 24, 25, 26, 27, 28, 29, 30, 31, 32, 33, 34

## 61003618321
designator P?, comment 3A, 250 V (AC)
WR-PHD Pin Header, SMT, pitch 2.54mm, Single Row, Vertical, 36p; Manufacturer Part Number: 61003618321; Manufacturer: Wurth Elektronik; Pin Number: 36; Working Voltage: 250VAC; Withstanding Voltage: 500VAC; Contact Resistance: 20mOhm; ComponentLink1Description: Datasheet; ComponentLink1URL: https://www.we-online.com/catalog/datasheet/61003618321.pdf; Published Date: May 2020; Pitch: 2.54mm; Packaging: Tube; Gender: Pin Header; Rated Current: 3A; Row Number: Single; Orientation: Vertical; Supplier 1 URL: N/A; Supplier 2 URL: N/A; Supplier 3 URL: N/A; LCSC Part #: N/A; Mount: SMD/SMT; Operating Temperature Max: + 85 C; Operating Temperature Min: - 25 C; Supplier 1: Mouser; Supplier 1 Part Number: N/A; Supplier 2: Digi-Key; Supplier 2 Part Number: N/A; Supplier 3: thegioiic; Supplier 3 Part Number: N/A; Value: 3A, 250 V (AC)
footprint 61003618321
pins: 1, 2, 3, 4, 5, 6, 7, 8, 9, 10, 11, 12, 13, 14, 15, 16, 17, 18, 19, 20, 21, 22, 23, 24, 25, 26, 27, 28, 29, 30, 31, 32, 33, 34, 35, 36

## 61003621121
designator P?, comment 3A, 250 V (AC)
WR-PHD Pin Header, SMT, pitch 2.54mm, Dual Row, Vertical, 36p; Manufacturer Part Number: 61003621121; Manufacturer: Wurth Elektronik; Pin Number: 36; Working Voltage: 250VAC; Withstanding Voltage: 500VAC; Contact Resistance: 20mOhm; ComponentLink1Description: Datasheet; ComponentLink1URL: https://www.we-online.com/catalog/datasheet/61003621121.pdf; Published Date: May 2020; Pitch: 2.54mm; Packaging: Tube; Gender: Pin Header; Rated Current: 3A; Row Number: Dual; Orientation: Vertical; Supplier 1 URL: https://www.mouser.vn/ProductDetail/Wurth-Elektronik/61003621121?qs=PhR8RmCirEYEqQZ%2FVJBNsQ%3D%3D; Supplier 2 URL: N/A; Supplier 3 URL: N/A; LCSC Part #: N/A; Mount: SMD/SMT; Operating Temperature Max: + 85 C; Operating Temperature Min: - 25 C; Supplier 1: Mouser; Supplier 1 Part Number: 710-61003621121; Supplier 2: Digi-Key; Supplier 2 Part Number: N/A; Supplier 3: thegioiic; Supplier 3 Part Number: N/A; Value: 3A, 250 V (AC)
footprint 61003621121
pins: 1, 2, 3, 4, 5, 6, 7, 8, 9, 10, 11, 12, 13, 14, 15, 16, 17, 18, 19, 20, 21, 22, 23, 24, 25, 26, 27, 28, 29, 30, 31, 32, 33, 34, 35, 36

## 61030421121
designator P?, comment 3A, 250 V (AC)
WR-PHD Pin Header, SMT, pitch 2.54mm, Dual Row, Vertical, 4p; Manufacturer Part Number: 61030421121; Manufacturer: Wurth Elektronik; Pin Number: 4; Working Voltage: 250VAC; Withstanding Voltage: 500VAC; Contact Resistance: 20mOhm; ComponentLink1Description: Datasheet; ComponentLink1URL: https://www.we-online.com/catalog/datasheet/61030421121.pdf; Published Date: May 2020; Pitch: 2.54mm; Packaging: Tape and Reel; Gender: Pin Header; Rated Current: 3A; Row Number: Dual; Orientation: Vertical; Supplier 1 URL: https://www.mouser.vn/ProductDetail/Wurth-Elektronik/61030421121?qs=PhR8RmCirEbubONBDfvqcw%3D%3D; Supplier 2 URL: N/A; Supplier 3 URL: N/A; LCSC Part #: N/A; Mount: SMD/SMT; Operating Temperature Max: + 85 C; Operating Temperature Min: - 25 C; Supplier 1: Mouser; Supplier 1 Part Number: 710-61030421121; Supplier 2: Digi-Key; Supplier 2 Part Number: N/A; Supplier 3: thegioiic; Supplier 3 Part Number: N/A; Value: 3A, 250 V (AC)
footprint 61030421121
pins: 1, 2, 3, 4

## 61030621121
designator P?, comment 3A, 250 V (AC)
WR-PHD Pin Header, SMT, pitch 2.54mm, Dual Row, Vertical, 6p; Manufacturer Part Number: 61030621121; Manufacturer: Wurth Elektronik; Pin Number: 6; Working Voltage: 250VAC; Withstanding Voltage: 500VAC; Contact Resistance: 20mOhm; ComponentLink1Description: Datasheet; ComponentLink1URL: https://www.we-online.com/catalog/datasheet/61030621121.pdf; Published Date: May 2020; Pitch: 2.54mm; Packaging: Tape and Reel; Gender: Pin Header; Rated Current: 3A; Row Number: Dual; Orientation: Vertical; Supplier 1 URL: https://www.mouser.vn/ProductDetail/Wurth-Elektronik/61000621121?qs=PhR8RmCirEYoFU9UUO%252Bbug%3D%3D; Supplier 2 URL: N/A; Supplier 3 URL: N/A; LCSC Part #: N/A; Mount: SMD/SMT; Operating Temperature Max: + 85 C; Operating Temperature Min: - 25 C; Supplier 1: Mouser; Supplier 1 Part Number: 710-61000621121; Supplier 2: Digi-Key; Supplier 2 Part Number: N/A; Supplier 3: thegioiic; Supplier 3 Part Number: N/A; Value: 3A, 250 V (AC)
footprint 61030621121
pins: 1, 2, 3, 4, 5, 6

## 61030821121
designator P?, comment 3A, 250 V (AC)
WR-PHD Pin Header, SMT, pitch 2.54mm, Dual Row, Vertical, 8p; Manufacturer Part Number: 61030821121; Manufacturer: Wurth Elektronik; Pin Number: 8; Working Voltage: 250VAC; Withstanding Voltage: 500VAC; Contact Resistance: 20mOhm; ComponentLink1Description: Datasheet; ComponentLink1URL: https://www.we-online.com/catalog/datasheet/61030821121.pdf; Published Date: May 2020; Pitch: 2.54mm; Packaging: Tape and Reel; Gender: Pin Header; Rated Current: 3A; Row Number: Dual; Orientation: Vertical; Supplier 1 URL: https://www.mouser.vn/ProductDetail/Wurth-Elektronik/61030821121?qs=PhR8RmCirEbjbnJ8oQ44mA%3D%3D; Supplier 2 URL: N/A; Supplier 3 URL: N/A; LCSC Part #: N/A; Mount: SMD/SMT; Operating Temperature Max: + 85 C; Operating Temperature Min: - 25 C; Supplier 1: Mouser; Supplier 1 Part Number: 710-61030821121; Supplier 2: Digi-Key; Supplier 2 Part Number: N/A; Supplier 3: thegioiic; Supplier 3 Part Number: N/A; Value: 3A, 250 V (AC)
footprint 61030821121
pins: 1, 2, 3, 4, 5, 6, 7, 8

## 61031021121
designator P?, comment 3A, 250 V (AC)
WR-PHD Pin Header, SMT, pitch 2.54mm, Dual Row, Vertical, 10p; Manufacturer Part Number: 61031021121; Manufacturer: Wurth Elektronik; Pin Number: 10; Working Voltage: 250VAC; Withstanding Voltage: 500VAC; Contact Resistance: 20mOhm; ComponentLink1Description: Datasheet; ComponentLink1URL: https://www.we-online.com/catalog/datasheet/61031021121.pdf; Published Date: May 2020; Pitch: 2.54mm; Packaging: Tape and Reel; Gender: Pin Header; Rated Current: 3A; Row Number: Dual; Orientation: Vertical; Supplier 1 URL: https://www.mouser.vn/ProductDetail/Wurth-Elektronik/61031021121?qs=PhR8RmCirEY2%2FzLW0q%252BGug%3D%3D; Supplier 2 URL: N/A; Supplier 3 URL: N/A; LCSC Part #: N/A; Mount: SMD/SMT; Operating Temperature Max: + 85 C; Operating Temperature Min: - 25 C; Supplier 1: Mouser; Supplier 1 Part Number: 710-61031021121; Supplier 2: Digi-Key; Supplier 2 Part Number: N/A; Supplier 3: thegioiic; Supplier 3 Part Number: N/A; Value: 3A, 250 V (AC)
footprint 61031021121
pins: 1, 2, 3, 4, 5, 6, 7, 8, 9, 10

## 61031221121
designator P?, comment 3A, 250 V (AC)
WR-PHD Pin Header, SMT, pitch 2.54mm, Dual Row, Vertical, 12p; Manufacturer Part Number: 61031221121; Manufacturer: Wurth Elektronik; Pin Number: 12; Working Voltage: 250VAC; Withstanding Voltage: 500VAC; Contact Resistance: 20mOhm; ComponentLink1Description: Datasheet; ComponentLink1URL: https://www.we-online.com/catalog/datasheet/61031221121.pdf; Published Date: May 2020; Pitch: 2.54mm; Packaging: Tape and Reel; Gender: Pin Header; Rated Current: 3A; Row Number: Dual; Orientation: Vertical; Supplier 1 URL: https://www.mouser.vn/ProductDetail/Wurth-Elektronik/61031221121?qs=PhR8RmCirEaapV3knZvuPQ%3D%3D; Supplier 2 URL: N/A; Supplier 3 URL: N/A; LCSC Part #: N/A; Mount: SMD/SMT; Operating Temperature Max: + 85 C; Operating Temperature Min: - 25 C; Supplier 1: Mouser; Supplier 1 Part Number: 710-61031221121; Supplier 2: Digi-Key; Supplier 2 Part Number: N/A; Supplier 3: thegioiic; Supplier 3 Part Number: N/A; Value: 3A, 250 V (AC)
footprint 61031221121
pins: 1, 2, 3, 4, 5, 6, 7, 8, 9, 10, 11, 12

## 61031421121
designator P?, comment 3A, 250 V (AC)
WR-PHD Pin Header, SMT, pitch 2.54mm, Dual Row, Vertical, 14p; Manufacturer Part Number: 61031421121; Manufacturer: Wurth Elektronik; Pin Number: 14; Working Voltage: 250VAC; Withstanding Voltage: 500VAC; Contact Resistance: 20mOhm; ComponentLink1Description: Datasheet; ComponentLink1URL: https://www.we-online.com/catalog/datasheet/61031421121.pdf; Published Date: May 2020; Pitch: 2.54mm; Packaging: Tape and Reel; Gender: Pin Header; Rated Current: 3A; Row Number: Dual; Orientation: Vertical; Supplier 1 URL: https://www.mouser.vn/ProductDetail/Wurth-Elektronik/61031421121?qs=PhR8RmCirEZZbVT40l1VFg%3D%3D; Supplier 2 URL: N/A; Supplier 3 URL: N/A; LCSC Part #: N/A; Mount: SMD/SMT; Operating Temperature Max: + 85 C; Operating Temperature Min: - 25 C; Supplier 1: Mouser; Supplier 1 Part Number: 710-61031421121; Supplier 2: Digi-Key; Supplier 2 Part Number: N/A; Supplier 3: thegioiic; Supplier 3 Part Number: N/A; Value: 3A, 250 V (AC)
footprint 61031421121
pins: 1, 2, 3, 4, 5, 6, 7, 8, 9, 10, 11, 12, 13, 14

## 61031621121
designator P?, comment 3A, 250 V (AC)
WR-PHD Pin Header, SMT, pitch 2.54mm, Dual Row, Vertical, 16p; Manufacturer Part Number: 61031621121; Manufacturer: Wurth Elektronik; Pin Number: 16; Working Voltage: 250VAC; Withstanding Voltage: 500VAC; Contact Resistance: 20mOhm; ComponentLink1Description: Datasheet; ComponentLink1URL: https://www.we-online.com/catalog/datasheet/61031621121.pdf; Published Date: May 2020; Pitch: 2.54mm; Packaging: Tape and Reel; Gender: Pin Header; Rated Current: 3A; Row Number: Dual; Orientation: Vertical; Supplier 1 URL: https://www.mouser.vn/ProductDetail/Wurth-Elektronik/61031621121?qs=PhR8RmCirEaYpa18y0YR3Q%3D%3D; Supplier 2 URL: N/A; Supplier 3 URL: N/A; LCSC Part #: N/A; Mount: SMD/SMT; Operating Temperature Max: + 85 C; Operating Temperature Min: - 25 C; Supplier 1: Mouser; Supplier 1 Part Number: 710-61031621121; Supplier 2: Digi-Key; Supplier 2 Part Number: N/A; Supplier 3: thegioiic; Supplier 3 Part Number: N/A; Value: 3A, 250 V (AC)
footprint 61031621121
pins: 1, 2, 3, 4, 5, 6, 7, 8, 9, 10, 11, 12, 13, 14, 15, 16

## 61032021121
designator P?, comment 3A, 250 V (AC)
WR-PHD Pin Header, SMT, pitch 2.54mm, Dual Row, Vertical, 20p; Manufacturer Part Number: 61032021121; Manufacturer: Wurth Elektronik; Pin Number: 20; Working Voltage: 250VAC; Withstanding Voltage: 500VAC; Contact Resistance: 20mOhm; ComponentLink1Description: Datasheet; ComponentLink1URL: https://www.we-online.com/catalog/datasheet/61032021121.pdf; Published Date: May 2020; Pitch: 2.54mm; Packaging: Tape and Reel; Gender: Pin Header; Rated Current: 3A; Row Number: Dual; Orientation: Vertical; Supplier 1 URL: https://www.mouser.vn/ProductDetail/Wurth-Elektronik/61032021121?qs=PhR8RmCirEazLxlZVVgCjg%3D%3D; Supplier 2 URL: N/A; Supplier 3 URL: N/A; LCSC Part #: N/A; Mount: SMD/SMT; Operating Temperature Max: + 85 C; Operating Temperature Min: - 25 C; Supplier 1: Mouser; Supplier 1 Part Number: 710-61032021121; Supplier 2: Digi-Key; Supplier 2 Part Number: N/A; Supplier 3: thegioiic; Supplier 3 Part Number: N/A; Value: 3A, 250 V (AC)
footprint 61032021121
pins: 1, 2, 3, 4, 5, 6, 7, 8, 9, 10, 11, 12, 13, 14, 15, 16, 17, 18, 19, 20

## 61300111121
designator P?, comment 3A, 250 V (AC)
WR-PHD Pin Header, THT, pitch 2.54mm, Single Row, Vertical, 1p; Manufacturer Part Number: 61300111121; Manufacturer: Wurth Elektronik; Pin Number: 1; Working Voltage: 250VAC; Withstanding Voltage: 500VAC; Contact Resistance: 20mOhm; ComponentLink1Description: Datasheet; ComponentLink1URL: https://www.we-online.com/catalog/datasheet/61300111121.pdf; Published Date: May 2020; Pitch: 2.54mm; Packaging: Bag; Gender: Pin Header; Rated Current: 3A; Row Number: Single; Orientation: Vertical; Supplier 1 URL: https://www.mouser.vn/ProductDetail/Wurth-Elektronik/61300111121?qs=PhR8RmCirEaRH5Ck%252B2lRLQ%3D%3D; Supplier 2 URL: N/A; Supplier 3 URL: N/A; LCSC Part #: N/A; Mount: THT; Operating Temperature Max: + 85 C; Operating Temperature Min: - 25 C; Supplier 1: Mouser; Supplier 1 Part Number: 710-61300111121; Supplier 2: Digi-Key; Supplier 2 Part Number: N/A; Supplier 3: thegioiic; Supplier 3 Part Number: N/A; Value: 3A, 250 V (AC)
footprint 61300111121
pins: 1

## 61300211021
designator P?, comment 3A, 250 V (AC)
WR-PHD Pin Header, THT, pitch 2.54mm, Single Row, Angled, 2p; Manufacturer Part Number: 61300211021; Manufacturer: Wurth Elektronik; Pin Number: 2; Working Voltage: 250VAC; Withstanding Voltage: 500VAC; Contact Resistance: 20mOhm; ComponentLink1Description: Datasheet; ComponentLink1URL: https://www.we-online.com/catalog/datasheet/61300211021.pdf; Published Date: May 2020; Pitch: 2.54mm; Packaging: Bag; Gender: Pin Header; Rated Current: 3A; Row Number: Single; Orientation: Angled; Supplier 1 URL: https://www.mouser.vn/ProductDetail/Wurth-Elektronik/61300211021?qs=PhR8RmCirEbDcrt4YhPPpA%3D%3D; Supplier 2 URL: N/A; Supplier 3 URL: N/A; LCSC Part #: N/A; Mount: THT; Operating Temperature Max: + 85 C; Operating Temperature Min: - 25 C; Supplier 1: Mouser; Supplier 1 Part Number: 710-61300211021; Supplier 2: Digi-Key; Supplier 2 Part Number: N/A; Supplier 3: thegioiic; Supplier 3 Part Number: N/A; Value: 3A, 250 V (AC)
footprint 61300211021
pins: 1, 2

## 61300211121
designator P?, comment 3A, 250 V (AC)
WR-PHD Pin Header, THT, pitch 2.54mm, Single Row, Vertical, 2p; Manufacturer Part Number: 61300211121; Manufacturer: Wurth Elektronik; Pin Number: 2; Working Voltage: 250VAC; Withstanding Voltage: 500VAC; Contact Resistance: 20mOhm; ComponentLink1Description: Datasheet; ComponentLink1URL: https://www.we-online.com/catalog/datasheet/61300211121.pdf; Published Date: May 2020; Pitch: 2.54mm; Packaging: Bag; Gender: Pin Header; Rated Current: 3A; Row Number: Single; Orientation: Vertical; Supplier 1 URL: https://www.mouser.vn/ProductDetail/Wurth-Elektronik/61300211121?qs=t4813l51qx%252B1A5GYDQxPlw%3D%3D; Supplier 2 URL: N/A; Supplier 3 URL: N/A; LCSC Part #: N/A; Mount: THT; Operating Temperature Max: + 85 C; Operating Temperature Min: - 25 C; Supplier 1: Mouser; Supplier 1 Part Number: 710-61300211121; Supplier 2: Digi-Key; Supplier 2 Part Number: N/A; Supplier 3: thegioiic; Supplier 3 Part Number: N/A; Value: 3A, 250 V (AC)
footprint 61300211121
pins: 1, 2

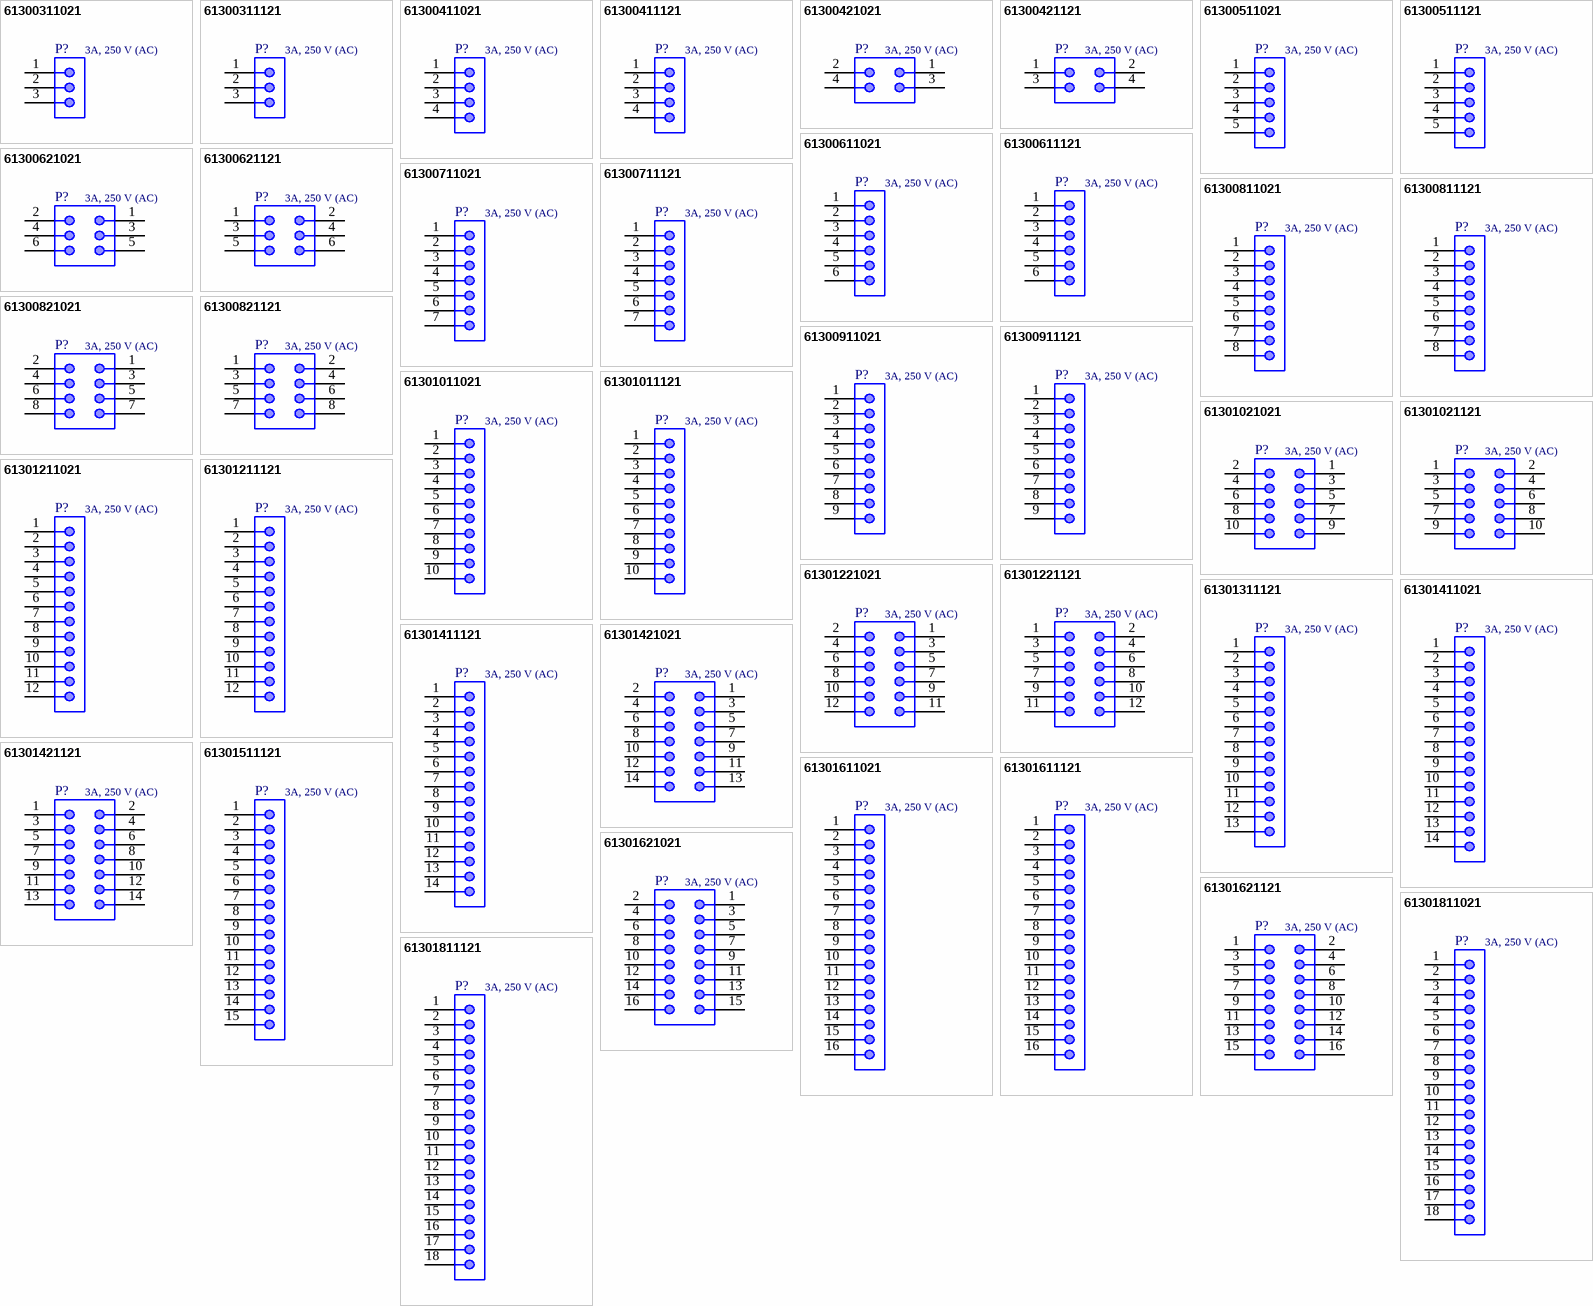
[diagram p1: symbols 61300311021 to 61301811121]

## 61300311021
designator P?, comment 3A, 250 V (AC)
WR-PHD Pin Header, THT, pitch 2.54mm, Single Row, Angled, 3p; Manufacturer Part Number: 61300311021; Manufacturer: Wurth Elektronik; Pin Number: 3; Working Voltage: 250VAC; Withstanding Voltage: 500VAC; Contact Resistance: 20mOhm; ComponentLink1Description: Datasheet; ComponentLink1URL: https://www.we-online.com/catalog/datasheet/61300311021.pdf; Published Date: May 2020; Pitch: 2.54mm; Packaging: Bag; Gender: Pin Header; Rated Current: 3A; Row Number: Single; Orientation: Angled; Supplier 1 URL: https://www.mouser.vn/ProductDetail/Wurth-Elektronik/61300311021?qs=PhR8RmCirEbNJ%252BPpVpFqFw%3D%3D; Supplier 2 URL: N/A; Supplier 3 URL: N/A; LCSC Part #: N/A; Mount: THT; Operating Temperature Max: + 85 C; Operating Temperature Min: - 25 C; Supplier 1: Mouser; Supplier 1 Part Number: 710-61300311021; Supplier 2: Digi-Key; Supplier 2 Part Number: N/A; Supplier 3: thegioiic; Supplier 3 Part Number: N/A; Value: 3A, 250 V (AC)
footprint 61300311021
pins: 1, 2, 3

## 61300311121
designator P?, comment 3A, 250 V (AC)
WR-PHD Pin Header, THT, pitch 2.54mm, Single Row, Vertical, 3p; Manufacturer Part Number: 61300311121; Manufacturer: Wurth Elektronik; Pin Number: 3; Working Voltage: 250VAC; Withstanding Voltage: 500VAC; Contact Resistance: 20mOhm; ComponentLink1Description: Datasheet; ComponentLink1URL: https://www.we-online.com/catalog/datasheet/61300311121.pdf; Published Date: May 2020; Pitch: 2.54mm; Packaging: Bag; Gender: Pin Header; Rated Current: 3A; Row Number: Single; Orientation: Vertical; Supplier 1 URL: https://www.mouser.vn/ProductDetail/Wurth-Elektronik/61300311121?qs=PhR8RmCirEYxRWFJzNKsUw%3D%3D; Supplier 2 URL: N/A; Supplier 3 URL: N/A; LCSC Part #: N/A; Mount: THT; Operating Temperature Max: + 85 C; Operating Temperature Min: - 25 C; Supplier 1: Mouser; Supplier 1 Part Number: 710-61300311121; Supplier 2: Digi-Key; Supplier 2 Part Number: N/A; Supplier 3: thegioiic; Supplier 3 Part Number: N/A; Value: 3A, 250 V (AC)
footprint 61300311121
pins: 1, 2, 3

## 61300411021
designator P?, comment 3A, 250 V (AC)
WR-PHD Pin Header, THT, pitch 2.54mm, Single Row, Angled, 4p; Manufacturer Part Number: 61300411021; Manufacturer: Wurth Elektronik; Pin Number: 4; Working Voltage: 250VAC; Withstanding Voltage: 500VAC; Contact Resistance: 20mOhm; ComponentLink1Description: Datasheet; ComponentLink1URL: https://www.we-online.com/catalog/datasheet/61300411021.pdf; Published Date: May 2020; Pitch: 2.54mm; Packaging: Bag; Gender: Pin Header; Rated Current: 3A; Row Number: Single; Orientation: Angled; Supplier 1 URL: https://www.mouser.vn/ProductDetail/Wurth-Elektronik/61300411021?qs=PhR8RmCirEZA1t3zcLZqlA%3D%3D; Supplier 2 URL: N/A; Supplier 3 URL: N/A; LCSC Part #: N/A; Mount: THT; Operating Temperature Max: + 85 C; Operating Temperature Min: - 25 C; Supplier 1: Mouser; Supplier 1 Part Number: 710-61300411021; Supplier 2: Digi-Key; Supplier 2 Part Number: N/A; Supplier 3: thegioiic; Supplier 3 Part Number: N/A; Value: 3A, 250 V (AC)
footprint 61300411021
pins: 1, 2, 3, 4

## 61300411121
designator P?, comment 3A, 250 V (AC)
WR-PHD Pin Header, THT, pitch 2.54mm, Single Row, Vertical, 4p; Manufacturer Part Number: 61300411121; Manufacturer: Wurth Elektronik; Pin Number: 4; Working Voltage: 250VAC; Withstanding Voltage: 500VAC; Contact Resistance: 20mOhm; ComponentLink1Description: Datasheet; ComponentLink1URL: https://www.we-online.com/catalog/datasheet/61300411121.pdf; Published Date: May 2020; Pitch: 2.54mm; Packaging: Bag; Gender: Pin Header; Rated Current: 3A; Row Number: Single; Orientation: Vertical; Supplier 1 URL: https://www.mouser.vn/ProductDetail/Wurth-Elektronik/61300311121?qs=PhR8RmCirEYxRWFJzNKsUw%3D%3D; Supplier 2 URL: N/A; Supplier 3 URL: N/A; LCSC Part #: N/A; Mount: THT; Operating Temperature Max: + 85 C; Operating Temperature Min: - 25 C; Supplier 1: Mouser; Supplier 1 Part Number: 710-61300311121; Supplier 2: Digi-Key; Supplier 2 Part Number: N/A; Supplier 3: thegioiic; Supplier 3 Part Number: N/A; Value: 3A, 250 V (AC)
footprint 61300411121
pins: 1, 2, 3, 4

## 61300421021
designator P?, comment 3A, 250 V (AC)
WR-PHD Pin Header, THT, pitch 2.54mm, Dual Row, Angled, 4p; Manufacturer Part Number: 61300421021; Manufacturer: Wurth Elektronik; Pin Number: 4; Working Voltage: 250VAC; Withstanding Voltage: 500VAC; Contact Resistance: 20mOhm; ComponentLink1Description: Datasheet; ComponentLink1URL: https://www.we-online.com/catalog/datasheet/61300421021.pdf; Published Date: May 2020; Pitch: 2.54mm; Packaging: Bag; Gender: Pin Header; Rated Current: 3A; Row Number: Dual; Orientation: Angled; Supplier 1 URL: https://www.mouser.vn/ProductDetail/Wurth-Elektronik/61300421021?qs=PhR8RmCirEb8kC6KShPniw%3D%3D; Supplier 2 URL: N/A; Supplier 3 URL: N/A; LCSC Part #: N/A; Mount: THT; Operating Temperature Max: + 85 C; Operating Temperature Min: - 25 C; Supplier 1: Mouser; Supplier 1 Part Number: 710-61300421021; Supplier 2: Digi-Key; Supplier 2 Part Number: N/A; Supplier 3: thegioiic; Supplier 3 Part Number: N/A; Value: 3A, 250 V (AC)
footprint 61300421021
pins: 1, 2, 3, 4

## 61300421121
designator P?, comment 3A, 250 V (AC)
WR-PHD Pin Header, THT, pitch 2.54mm, Dual Row, Vertical, 4p; Manufacturer Part Number: 61300421121; Manufacturer: Wurth Elektronik; Pin Number: 4; Working Voltage: 250VAC; Withstanding Voltage: 500VAC; Contact Resistance: 20mOhm; ComponentLink1Description: Datasheet; ComponentLink1URL: https://www.we-online.com/catalog/datasheet/61300421121.pdf; Published Date: May 2020; Pitch: 2.54mm; Packaging: Bag; Gender: Pin Header; Rated Current: 3A; Row Number: Dual; Orientation: Vertical; Supplier 1 URL: https://www.mouser.vn/ProductDetail/Wurth-Elektronik/61300421121?qs=PhR8RmCirEao42LF%252BB5Mtw%3D%3D; Supplier 2 URL: N/A; Supplier 3 URL: N/A; LCSC Part #: N/A; Mount: THT; Operating Temperature Max: + 85 C; Operating Temperature Min: - 25 C; Supplier 1: Mouser; Supplier 1 Part Number: 710-61300421121; Supplier 2: Digi-Key; Supplier 2 Part Number: N/A; Supplier 3: thegioiic; Supplier 3 Part Number: N/A; Value: 3A, 250 V (AC)
footprint 61300421121
pins: 1, 2, 3, 4

## 61300511021
designator P?, comment 3A, 250 V (AC)
WR-PHD Pin Header, THT, pitch 2.54mm, Single Row, Angled, 5p; Manufacturer Part Number: 61300511021; Manufacturer: Wurth Elektronik; Pin Number: 5; Working Voltage: 250VAC; Withstanding Voltage: 500VAC; Contact Resistance: 20mOhm; ComponentLink1Description: Datasheet; ComponentLink1URL: https://www.we-online.com/catalog/datasheet/61300511021.pdf; Published Date: May 2020; Pitch: 2.54mm; Packaging: Bag; Gender: Pin Header; Rated Current: 3A; Row Number: Single; Orientation: Angled; Supplier 1 URL: https://www.mouser.vn/ProductDetail/Wurth-Elektronik/61300511021?qs=PhR8RmCirEazneNRFf2Thg%3D%3D; Supplier 2 URL: N/A; Supplier 3 URL: N/A; LCSC Part #: N/A; Mount: THT; Operating Temperature Max: + 85 C; Operating Temperature Min: - 25 C; Supplier 1: Mouser; Supplier 1 Part Number: 710-61300511021; Supplier 2: Digi-Key; Supplier 2 Part Number: N/A; Supplier 3: thegioiic; Supplier 3 Part Number: N/A; Value: 3A, 250 V (AC)
footprint 61300511021
pins: 1, 2, 3, 4, 5